# Altium footprint library Discrete_Transistors_BJT_SMD_SOT.PcbLib: 15 footprints
Each footprint in its own frame and in the unit in brackets; x right, y up, seen from the top. Pads: shape width x height; smd on the part's side, far side on the other; paste and mask are expansions set on the pad; w line width, h text height; cw(c..) or ccw(c..) is an arc to the next point about the centre after c.
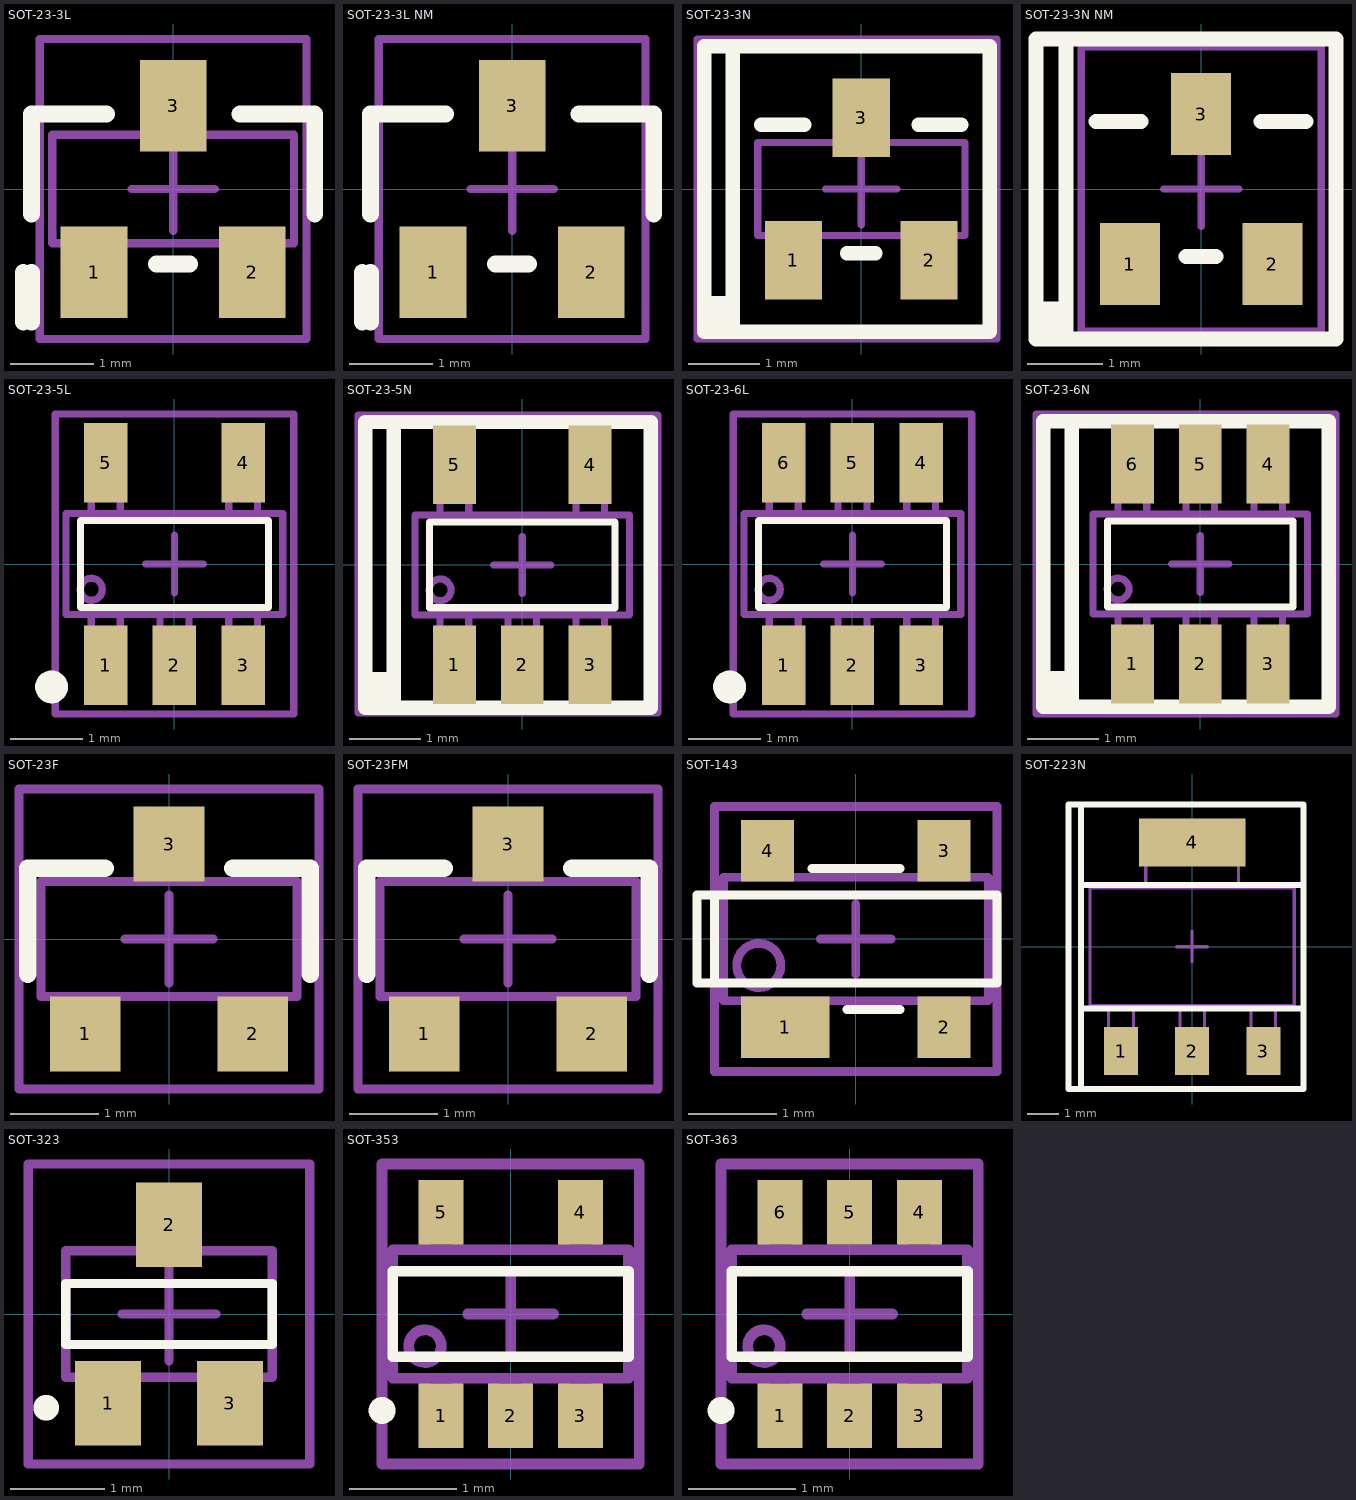
[diagram p0: the footprints below, top view; thin cyan lines are the x and y axes]

## SOT-23-3L [mm]
height 1.2
pads (3):
  rect 0.8x1.1 smd: 1(-0.95,-1) 2(0.95,-1) 3(0,1)
Top Overlay:
  lines w0.2: -1.8,-1.6 -1.8,-1 ; -1.7,-1.6 -1.7,-1 ; -1.7,-0.3 -1.7,0.9 -0.8,0.9 ; -0.2,-0.9 0.2,-0.9 ; 0.8,0.9 1.7,0.9 1.7,-0.3
Top Package:
  lines w0.1: -1.175,-0.95 -0.725,-0.95 ; -1.175,-0.675 -1.175,-1.25 -0.725,-1.25 -0.725,-0.675 ; -0.225,0.65 -0.225,1.225 0.225,1.225 0.225,0.65 ; -0.225,0.925 0.225,0.925 ; 0.725,-0.95 1.175,-0.95 ; 0.725,-0.65 0.725,-1.225 1.175,-1.225 1.175,-0.65 ; -1.45,-0.65 -1.45,0.65 1.45,0.65 1.45,-0.65 -1.45,-0.65
Top Border:
  lines w0.1: -0.5,0 0.5,0 ; 0,-0.5 0,0.5 ; -1.6,-1.8 1.6,-1.8 1.6,1.8 -1.6,1.8 -1.6,-1.8
3D body "SOT23-3.step": height 1.3, standoff 0, extent -1.45,-1.4 1.45,1.4

## SOT-23-3L NM [mm]
height 1.2
pads (3):
  rect 0.8x1.1 smd: 1(-0.95,-1) 2(0.95,-1) 3(0,1)
Top Overlay:
  lines w0.2: -1.8,-1.6 -1.8,-1 ; -1.7,-1.6 -1.7,-1 ; -1.7,-0.3 -1.7,0.9 -0.8,0.9 ; -0.2,-0.9 0.2,-0.9 ; 0.8,0.9 1.7,0.9 1.7,-0.3
Top Border:
  lines w0.1: -0.5,0 0.5,0 ; 0,-0.5 0,0.5 ; -1.6,-1.8 1.6,-1.8 1.6,1.8 -1.6,1.8 -1.6,-1.8

## SOT-23-3N [mm]
height 1.2
pads (3):
  rect 0.8x1.1 smd: 1(-0.95,-1) 2(0.95,-1) 3(0,1)
Top Overlay:
  rectangle: -2.2,-2 -1.8,-1.6
  lines w0.2: -2.2,-1.6 -1.8,-1.6 ; -1.4,0.9 -0.8,0.9 ; -0.2,-0.9 0.2,-0.9 ; 0.8,0.9 1.4,0.9 ; -1.8,-2 -2.2,-2 -2.2,2 -1.8,2 ; -1.8,-2 1.8,-2 1.8,2 -1.8,2 ; -1.8,-2 -1.8,2
Top Package:
  lines w0.1: -1.175,-0.95 -0.725,-0.95 ; -1.175,-0.675 -1.175,-1.25 -0.725,-1.25 -0.725,-0.675 ; -0.225,0.65 -0.225,1.225 0.225,1.225 0.225,0.65 ; -0.225,0.925 0.225,0.925 ; 0.725,-0.95 1.175,-0.95 ; 0.725,-0.65 0.725,-1.225 1.175,-1.225 1.175,-0.65 ; -1.45,-0.65 -1.45,0.65 1.45,0.65 1.45,-0.65 -1.45,-0.65
Top Border:
  lines w0.1: -0.5,0 0.5,0 ; 0,-0.5 0,0.5 ; -2.3,-2.1 1.9,-2.1 1.9,2.1 -2.3,2.1 -2.3,-2.1
3D body "SOT23-3.step": height 1.3, standoff 0, extent -1.45,-1.4 1.45,1.4

## SOT-23-3N NM [mm]
height 1.2
pads (3):
  rect 0.8x1.1 smd: 1(-0.95,-1) 2(0.95,-1) 3(0,1)
Top Overlay:
  rectangle: -2.2,-2 -1.8,-1.6
  lines w0.2: -2.2,-1.6 -1.8,-1.6 ; -1.4,0.9 -0.8,0.9 ; -0.2,-0.9 0.2,-0.9 ; 0.8,0.9 1.4,0.9 ; -1.8,-2 -1.8,2 ; -1.8,-2 1.8,-2 1.8,2 -1.8,2 ; -1.8,-2 -2.2,-2 -2.2,2 -1.8,2
Top 3DPackage:
  lines w0.1: -0.5,0 0.5,0 ; 0,-0.5 0,0.5 ; -1.6,-1.9 -1.6,1.9 1.6,1.9 1.6,-1.9 -1.6,-1.9

## SOT-23-5L [mm]
height 1.1
pads (5):
  rect 0.6x1.1 smd: 1(-0.95,-1.4) 2(0,-1.4) 3(0.95,-1.4) 4(0.95,1.4) 5(-0.95,1.4)
Top Overlay:
  circle w0.254: c-1.7,-1.7 r0.1
  lines w0.1: -1.3,-0.6 1.3,-0.6 1.3,0.6 -1.3,0.6 -1.3,-0.6
Top Package:
  circle w0.1: c-1.15,-0.35 r0.152
  lines w0.1: -1.15,-1.15 -0.75,-1.15 ; -1.15,-0.7 -1.15,-1.5 -0.75,-1.5 -0.75,-0.7 ; -1.15,0.7 -1.15,1.5 -0.75,1.5 -0.75,0.7 ; -1.15,1.15 -0.75,1.15 ; -0.2,-1.15 0.2,-1.15 ; -0.2,-0.7 -0.2,-1.5 0.2,-1.5 0.2,-0.7 ; 0.75,-1.15 1.15,-1.15 ; 0.75,-0.7 0.75,-1.5 1.15,-1.5 1.15,-0.7 ; 0.75,0.7 0.75,1.5 1.15,1.5 1.15,0.7 ; 0.75,1.15 1.15,1.15 ; -1.5,-0.7 1.5,-0.7 1.5,0.7 -1.5,0.7 -1.5,-0.7
Top Border:
  lines w0.1: -0.4,0 0.4,0 ; 0,-0.4 0,0.4 ; -1.65,-2.075 1.65,-2.075 1.65,2.075 -1.65,2.075 -1.65,-2.075
3D body "User Library-SOT23-5-2.step": height 1.45, standoff 0, extent -1.45,-1.4 1.45,1.4

## SOT-23-5N [mm]
height 1.1
pads (5):
  rect 0.6x1.1 smd: 1(-0.95,-1.4) 2(0,-1.4) 3(0.95,-1.4) 4(0.95,1.4) 5(-0.95,1.4)
Top Overlay:
  rectangle: -2.2,-2 -1.8,-1.6
  lines w0.1: -1.3,-0.6 1.3,-0.6 1.3,0.6 -1.3,0.6 -1.3,-0.6
  lines w0.2: -2.2,-1.6 -1.8,-1.6 ; -1.8,-2 -1.8,2 ; -1.8,-2 1.8,-2 1.8,2 -1.8,2 ; -1.8,-2 -2.2,-2 -2.2,2 -1.8,2
Top Package:
  circle w0.1: c-1.15,-0.35 r0.152
  lines w0.1: -1.15,-1.15 -0.75,-1.15 ; -1.15,-0.7 -1.15,-1.5 -0.75,-1.5 -0.75,-0.7 ; -1.15,0.7 -1.15,1.5 -0.75,1.5 -0.75,0.7 ; -1.15,1.15 -0.75,1.15 ; -0.2,-1.15 0.2,-1.15 ; -0.2,-0.7 -0.2,-1.5 0.2,-1.5 0.2,-0.7 ; 0.75,-1.15 1.15,-1.15 ; 0.75,-0.7 0.75,-1.5 1.15,-1.5 1.15,-0.7 ; 0.75,0.7 0.75,1.5 1.15,1.5 1.15,0.7 ; 0.75,1.15 1.15,1.15 ; -1.5,-0.7 1.5,-0.7 1.5,0.7 -1.5,0.7 -1.5,-0.7
Top Border:
  lines w0.1: -0.4,0 0.4,0 ; 0,-0.4 0,0.4 ; -2.3,-2.075 -2.3,2.1 1.9,2.1 1.9,-2.075 -2.3,-2.075
3D body "User Library-SOT23-5-2.step": height 1.45, standoff 0, extent -1.45,-1.4 1.45,1.4

## SOT-23-6L [mm]
height 1.1
pads (6):
  rect 0.6x1.1 smd: 1(-0.95,-1.4) 2(0,-1.4) 3(0.95,-1.4) 4(0.95,1.4) 5(0,1.4) 6(-0.95,1.4)
Top Overlay:
  circle w0.254: c-1.7,-1.7 r0.1
  lines w0.1: -1.3,-0.6 -1.3,0.6 1.3,0.6 1.3,-0.6 -1.3,-0.6
Top Package:
  circle w0.1: c-1.15,-0.35 r0.152
  lines w0.1: -1.15,-1.15 -0.75,-1.15 ; -1.15,-0.7 -1.15,-1.5 -0.75,-1.5 -0.75,-0.7 ; -1.15,0.7 -1.15,1.5 -0.75,1.5 -0.75,0.7 ; -1.15,1.15 -0.75,1.15 ; -0.2,-1.15 0.2,-1.15 ; -0.2,-0.7 -0.2,-1.5 0.2,-1.5 0.2,-0.7 ; -0.2,0.7 -0.2,1.5 0.2,1.5 0.2,0.7 ; -0.2,1.15 0.2,1.15 ; 0.75,-1.15 1.15,-1.15 ; 0.75,-0.7 0.75,-1.5 1.15,-1.5 1.15,-0.7 ; 0.75,0.7 0.75,1.5 1.15,1.5 1.15,0.7 ; 0.75,1.15 1.15,1.15 ; -1.5,-0.7 -1.5,0.7 1.5,0.7 1.5,-0.7 -1.5,-0.7
Top Border:
  lines w0.1: -0.4,0 0.4,0 ; 0,-0.4 0,0.4 ; -1.65,-2.075 1.65,-2.075 1.65,2.075 -1.65,2.075 -1.65,-2.075
3D body "User Library-SOT23-6-2.step": height 1.45, standoff 0, extent -1.45,-1.4 1.45,1.4

## SOT-23-6N [mm]
height 1.1
pads (6):
  rect 0.6x1.1 smd: 1(-0.95,-1.4) 2(0,-1.4) 3(0.95,-1.4) 4(0.95,1.4) 5(0,1.4) 6(-0.95,1.4)
Top Overlay:
  rectangle: -2.2,-2 -1.8,-1.6
  lines w0.1: -1.3,-0.6 1.3,-0.6 1.3,0.6 -1.3,0.6 -1.3,-0.6
  lines w0.2: -2.2,-1.6 -1.8,-1.6 ; -1.8,-2 -1.8,2 ; -1.8,-2 1.8,-2 1.8,2 -1.8,2 ; -1.8,-2 -2.2,-2 -2.2,2 -1.8,2
Top Package:
  circle w0.1: c-1.15,-0.35 r0.152
  lines w0.1: -1.15,-1.15 -0.75,-1.15 ; -1.15,-0.7 -1.15,-1.5 -0.75,-1.5 -0.75,-0.7 ; -1.15,0.7 -1.15,1.5 -0.75,1.5 -0.75,0.7 ; -1.15,1.15 -0.75,1.15 ; -0.2,-1.15 0.2,-1.15 ; -0.2,-0.7 -0.2,-1.5 0.2,-1.5 0.2,-0.7 ; -0.2,0.7 -0.2,1.5 0.2,1.5 0.2,0.7 ; -0.2,1.15 0.2,1.15 ; 0.75,-1.15 1.15,-1.15 ; 0.75,-0.7 0.75,-1.5 1.15,-1.5 1.15,-0.7 ; 0.75,0.7 0.75,1.5 1.15,1.5 1.15,0.7 ; 0.75,1.15 1.15,1.15 ; -1.5,-0.7 -1.5,0.7 1.5,0.7 1.5,-0.7 -1.5,-0.7
Top Border:
  lines w0.1: -0.4,0 0.4,0 ; 0,-0.4 0,0.4 ; -2.3,-2.1 1.9,-2.1 1.9,2.1 -2.3,2.1 -2.3,-2.1
3D body "User Library-SOT23-6-2.step": height 1.45, standoff 0, extent -1.45,-1.4 1.45,1.4

## SOT-23F [mm]
height 0.8
pads (3):
  rect 0.8x0.85 smd: 1(-0.95,-1.075) 2(0.95,-1.075) 3(0,1.075)
Top Overlay:
  lines w0.2: -1.6,-0.4 -1.6,0.8 -0.725,0.8 ; 0.725,0.8 1.6,0.8 1.6,-0.4
Top Package:
  lines w0.1: -1.175,-0.675 -1.175,-1.25 -0.725,-1.25 -0.725,-0.675 ; -0.225,0.65 -0.225,1.225 0.225,1.225 0.225,0.65 ; 0.725,-0.65 0.725,-1.225 1.175,-1.225 1.175,-0.65 ; -1.45,-0.65 1.45,-0.65 1.45,0.65 -1.45,0.65 -1.45,-0.65
Top Border:
  lines w0.1: -0.5,0 0.5,0 ; 0,-0.5 0,0.5 ; -1.7,-1.7 -1.7,1.7 1.7,1.7 1.7,-1.7 -1.7,-1.7
3D body "SOT-23F.stp": height 0.8, standoff 0, extent -1.45,-1.22 1.45,1.22

## SOT-23FM [mm]
height 0.8
pads (3):
  rect 0.8x0.85 smd: 1(-0.95,-1.075) 2(0.95,-1.075) 3(0,1.075)
Top Overlay:
  lines w0.2: -1.6,-0.4 -1.6,0.8 -0.725,0.8 ; 0.725,0.8 1.6,0.8 1.6,-0.4
Top Package:
  lines w0.1: -1.175,-0.675 -1.175,-1.25 -0.725,-1.25 -0.725,-0.675 ; -0.225,0.65 -0.225,1.225 0.225,1.225 0.225,0.65 ; 0.725,-0.65 0.725,-1.225 1.175,-1.225 1.175,-0.65 ; -1.45,-0.65 -1.45,0.65 1.45,0.65 1.45,-0.65 -1.45,-0.65
Top 3DPackage:
  lines w0.1: -0.5,0 0.5,0 ; 0,-0.5 0,0.5 ; -1.7,-1.7 1.7,-1.7 1.7,1.7 -1.7,1.7 -1.7,-1.7
3D body "SOT-23F.stp": height 0.8, standoff 0, extent -1.45,-1.22 1.45,1.22

## SOT-143 [mm]
height 1.1
pads (4):
  rect 1x0.7 smd: 1(-0.8,-1)
  rect 0.6x0.7 smd: 2(1,-1) 3(1,1) 4(-1,1)
Top Overlay:
  lines w0.1: -1.6,-0.5 -1.6,0.5 ; -0.5,0.8 0.5,0.8 ; -0.1,-0.8 0.5,-0.8 ; -1.8,-0.5 1.6,-0.5 1.6,0.5 -1.8,0.5 -1.8,-0.5
Top Package:
  circle w0.1: c-1.1,-0.3 r0.25
  lines w0.1: -1.2,-0.9 -0.4,-0.9 ; -1.2,-0.7 -1.2,-1.3 -0.4,-1.3 -0.4,-0.7 ; -1.2,0.7 -1.2,1.3 -0.8,1.3 -0.8,0.7 ; -1.2,0.9 -0.8,0.9 ; 0.8,-0.9 1.2,-0.9 ; 0.8,-0.7 0.8,-1.3 1.2,-1.3 1.2,-0.7 ; 0.8,0.7 0.8,1.3 1.2,1.3 1.2,0.7 ; 0.8,0.9 1.2,0.9 ; -1.5,-0.7 1.5,-0.7 1.5,0.7 -1.5,0.7 -1.5,-0.7
Top Border:
  lines w0.1: -0.4,0 0.4,0 ; 0,-0.4 0,0.4 ; -1.6,-1.5 -1.6,1.5 1.6,1.5 1.6,-1.5 -1.6,-1.5
3D body "SOT-143.step": height 1.22, standoff 0, extent -1.45,-1.181 1.45,1.182

## SOT-223N [mm]
height 1.5
pads (4):
  rect 1.1x1.55 smd: 1(-2.3,-3.375) 2(0,-3.375) 3(2.3,-3.375)
  rect 3.45x1.55 smd: 4(0,3.375)
Top Overlay:
  lines w0.2: -3.6,-2 3.6,-2 ; -3.6,2 3.6,2 ; -3.6,-4.6 3.6,-4.6 3.6,4.6 -3.6,4.6 ; -3.6,-4.6 -3.6,4.6 ; -3.6,-4.6 -4,-4.6 -4,4.6 -3.6,4.6
Top Package:
  lines w0.1: -2.7,-2.8 -1.9,-2.8 ; -1.5,2.7 1.5,2.7 ; -0.4,-2.8 0.4,-2.8 ; 1.9,-2.8 2.7,-2.8 ; -3.3,-1.9 3.3,-1.9 3.3,1.9 -3.3,1.9 -3.3,-1.9 ; -2.7,-3.5 -1.9,-3.5 -1.9,-1.9 -2.7,-1.9 -2.7,-3.5 ; -1.5,1.9 1.5,1.9 1.5,3.5 -1.5,3.5 -1.5,1.9 ; -0.4,-3.5 -0.4,-1.9 0.4,-1.9 0.4,-3.5 -0.4,-3.5 ; 1.9,-3.5 1.9,-1.9 2.7,-1.9 2.7,-3.5 1.9,-3.5
Top Border:
  lines w0.1: -0.5,0 0.5,0 ; 0,-0.5 0,0.5 ; -4,-4.6 3.6,-4.6 3.6,4.6 -4,4.6 -4,-4.6
3D body "User Library-SOT-223-3.step": height 1.7, standoff 0.02, extent -3.25,-3.48 3.25,3.48

## SOT-323 [mm]
height 1
pads (3):
  rect 0.7x0.9 smd paste+0: 1(-0.65,-0.95)
  rect 0.7x0.9 smd: 2(0,0.95) 3(0.65,-0.95)
Top Overlay:
  circle w0.254: c-1.31,-1 r0.01
  lines w0.1: -1.1,-0.325 -1.1,0.325 1.1,0.325 1.1,-0.325 -1.1,-0.325
Top Package:
  lines w0.1: -1.1,-0.675 1.1,-0.675 1.1,0.675 -1.1,0.675 -1.1,-0.675
Top Border:
  lines w0.1: -0.5,0 0.5,0 ; 0,-0.5 0,0.5 ; -1.5,-1.6 -1.5,1.6 1.5,1.6 1.5,-1.6 -1.5,-1.6
3D body "MOSFET 1.2A DMP2160UW-7.STEP": height 1.1, standoff 0, extent -1.1,-1.123 1.1,1.123

## SOT-353 [mm]
height 1.1
pads (5):
  rect 0.42x0.6 smd: 1(-0.65,-0.95) 2(0,-0.95) 3(0.65,-0.95) 4(0.65,0.95) 5(-0.65,0.95)
Top Overlay:
  circle w0.15: c-1.2,-0.9 r0.05
  lines w0.1: -1.1,-0.4 -1.1,0.4 1.1,0.4 1.1,-0.4 -1.1,-0.4
Top Package:
  circle w0.1: c-0.8,-0.3 r0.152
  lines w0.1: -0.8,-0.85 -0.5,-0.85 ; -0.8,-0.6 -0.8,-1.1 -0.5,-1.1 -0.5,-0.6 ; -0.8,0.6 -0.8,1.1 -0.5,1.1 -0.5,0.6 ; -0.8,0.85 -0.5,0.85 ; -0.15,-0.85 0.15,-0.85 ; -0.15,-0.6 -0.15,-1.1 0.15,-1.1 0.15,-0.6 ; 0.5,-0.85 0.8,-0.85 ; 0.5,-0.6 0.5,-1.1 0.8,-1.1 0.8,-0.6 ; 0.5,0.6 0.5,1.1 0.8,1.1 0.8,0.6 ; 0.5,0.85 0.8,0.85 ; -1.1,-0.6 -1.1,0.6 1.1,0.6 1.1,-0.6 -1.1,-0.6
Top Border:
  lines w0.1: -0.4,0 0.4,0 ; 0,-0.4 0,0.4 ; -1.2,-1.4 1.2,-1.4 1.2,1.4 -1.2,1.4 -1.2,-1.4
3D body "SOT353.step": height 1.1, standoff 0, extent -1.1,-1.2 1.1,1.2

## SOT-363 [mm]
height 1.1
pads (6):
  rect 0.42x0.6 smd: 1(-0.65,-0.95) 2(0,-0.95) 3(0.65,-0.95) 4(0.65,0.95) 5(0,0.95) 6(-0.65,0.95)
Top Overlay:
  circle w0.15: c-1.2,-0.9 r0.05
  lines w0.1: -1.1,-0.4 1.1,-0.4 1.1,0.4 -1.1,0.4 -1.1,-0.4
Top Package:
  circle w0.1: c-0.8,-0.3 r0.152
  lines w0.1: -0.8,-0.85 -0.5,-0.85 ; -0.8,-0.6 -0.8,-1.1 -0.5,-1.1 -0.5,-0.6 ; -0.8,0.6 -0.8,1.1 -0.5,1.1 -0.5,0.6 ; -0.8,0.85 -0.5,0.85 ; -0.15,-0.85 0.15,-0.85 ; -0.15,-0.6 -0.15,-1.1 0.15,-1.1 0.15,-0.6 ; 0.5,-0.85 0.8,-0.85 ; 0.5,-0.6 0.5,-1.1 0.8,-1.1 0.8,-0.6 ; 0.5,0.6 0.5,1.1 0.8,1.1 0.8,0.6 ; 0.5,0.85 0.8,0.85 ; -1.1,-0.6 1.1,-0.6 1.1,0.6 -1.1,0.6 -1.1,-0.6
Top Border:
  lines w0.1: -0.4,0 0.4,0 ; 0,-0.4 0,0.4 ; -1.2,-1.4 -1.2,1.4 1.2,1.4 1.2,-1.4 -1.2,-1.4
3D body "SOT-363.step": height 1, standoff 0, extent -1.05,-1.15 1.05,1.15